# Altium footprint library PcbLib1.PcbLib: 2 footprints
Each footprint in its own frame and in the unit in brackets; x right, y up, seen from the top. Pads: shape width x height; smd on the part's side, far side on the other; paste and mask are expansions set on the pad; w line width, h text height; cw(c..) or ccw(c..) is an arc to the next point about the centre after c.
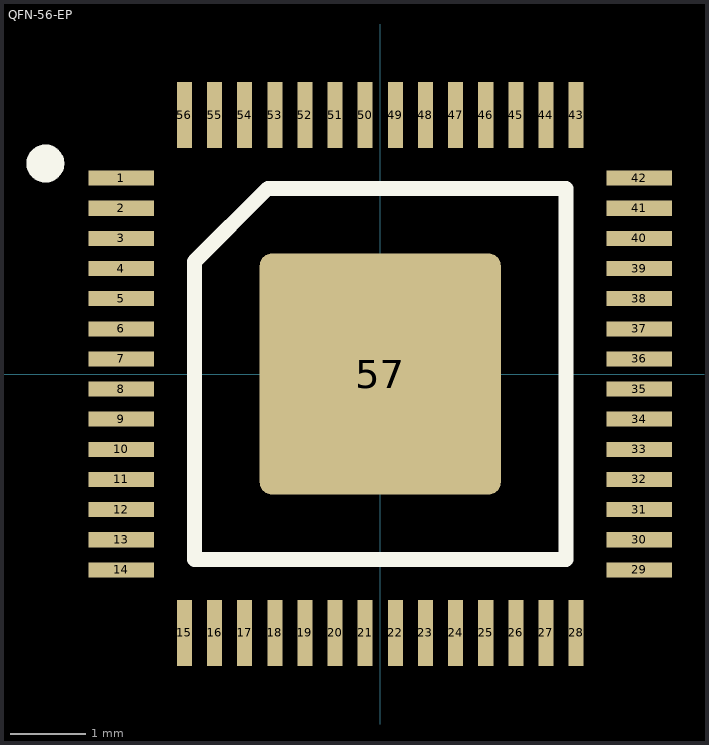
[diagram p0: the footprints below, top view; thin cyan lines are the x and y axes]

## PCBComponent_1 [mm]

## QFN-56-EP [mm]
pads (57):
  rect 0.875x0.2 smd mask+0.05: 1(-3.437,2.6) 2(-3.437,2.2) 3(-3.437,1.8) 4(-3.437,1.4) 5(-3.437,1) 6(-3.437,0.6) 7(-3.437,0.2) 8(-3.437,-0.2) 9(-3.437,-0.6) 10(-3.437,-1) 11(-3.437,-1.4) 12(-3.437,-1.8) 13(-3.437,-2.2) 14(-3.437,-2.6) 29(3.437,-2.6) 30(3.437,-2.2) 31(3.437,-1.8) 32(3.437,-1.4) 33(3.437,-1) 34(3.437,-0.6) 35(3.437,-0.2) 36(3.437,0.2) 37(3.437,0.6) 38(3.437,1) 39(3.437,1.4) 40(3.437,1.8) 41(3.437,2.2) 42(3.437,2.6)
  rect 0.2x0.875 smd mask+0.05: 15(-2.6,-3.437) 16(-2.2,-3.437) 17(-1.8,-3.437) 18(-1.4,-3.437) 19(-1,-3.437) 20(-0.6,-3.437) 21(-0.2,-3.437) 22(0.2,-3.437) 23(0.6,-3.437) 24(1,-3.437) 25(1.4,-3.437) 26(1.8,-3.437) 27(2.2,-3.437) 28(2.6,-3.437) 43(2.6,3.437) 44(2.2,3.437) 45(1.8,3.437) 46(1.4,3.437) 47(1,3.437) 48(0.6,3.437) 49(0.2,3.437) 50(-0.2,3.437) 51(-0.6,3.437) 52(-1,3.437) 53(-1.4,3.437) 54(-1.8,3.437) 55(-2.2,3.437) 56(-2.6,3.437)
  rrect10% 3.2x3.2 smd mask-2539.97: 57(0,0)
Top Overlay:
  circle w0.25: c-4.445,2.794 r0.127
  lines w0.2: -2.465,-2.465 -2.465,1.492 -1.492,2.465 2.465,2.465 2.465,-2.465 -2.465,-2.465
Top Solder:
  region: -1.6,-0.8 -1.6,0.8 -1.6,0.852 -1.586,0.956 -1.559,1.058 -1.519,1.155 -1.467,1.245 -1.403,1.329 -1.329,1.403 -1.245,1.467 -1.155,1.519 -1.058,1.559 -0.956,1.586 -0.852,1.6 -0.8,1.6 0.8,1.6 0.852,1.6 0.956,1.586 1.058,1.559 1.155,1.519 1.245,1.467 1.329,1.403 1.403,1.329 1.467,1.245 1.519,1.155 1.559,1.058 1.586,0.956 1.6,0.852 1.6,0.8 1.6,-0.8 1.6,-0.852 1.586,-0.956 1.559,-1.058 1.519,-1.155 1.467,-1.245 1.403,-1.329 1.329,-1.403 1.245,-1.467 1.155,-1.519 1.058,-1.559 0.956,-1.586 0.852,-1.6 0.8,-1.6 -0.8,-1.6 -0.852,-1.6 -0.956,-1.586 -1.058,-1.559 -1.155,-1.519 -1.245,-1.467 -1.329,-1.403 -1.403,-1.329 -1.467,-1.245 -1.519,-1.155 -1.559,-1.058 -1.586,-0.956 -1.6,-0.852
3D body "User Library-RP2040_QFN56_04.step": height 0.91, standoff 0.01, extent -3.52,-3.52 3.52,3.52